# Altium footprint library coglib.PCBLIB: 12 footprints
Each footprint in its own frame and in the unit in brackets; x right, y up, seen from the top. Pads: shape width x height; smd on the part's side, far side on the other; paste and mask are expansions set on the pad; w line width, h text height; cw(c..) or ccw(c..) is an arc to the next point about the centre after c.
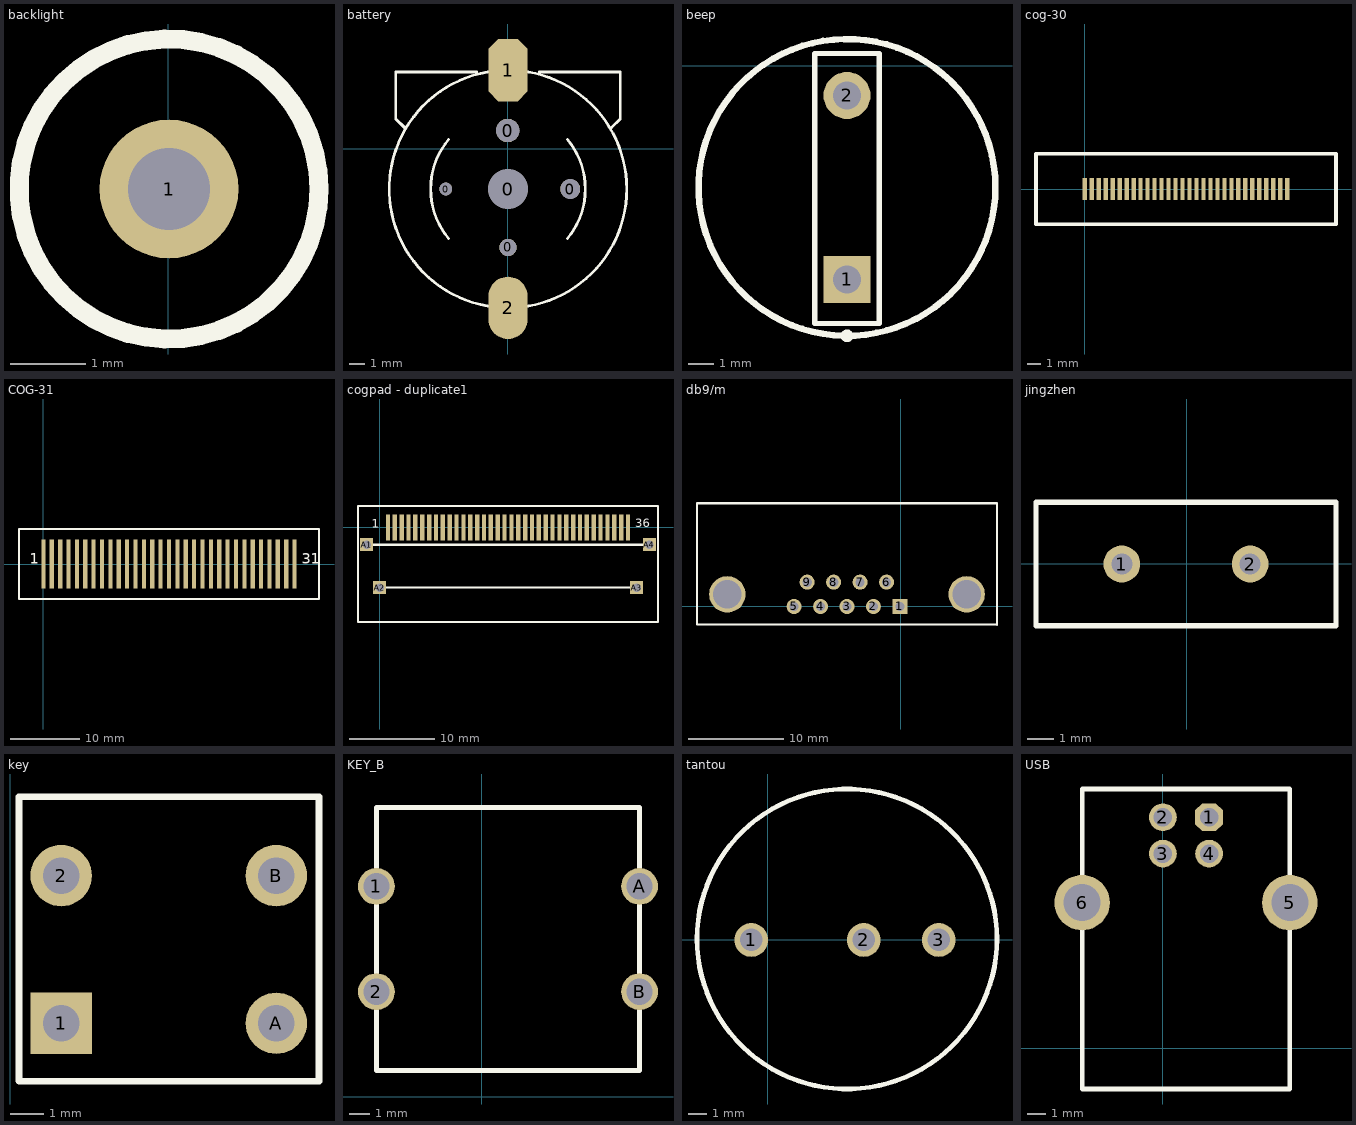
[diagram p0: the footprints below, top view; thin cyan lines are the x and y axes]

## backlight [mm]
pads (1):
  round 1.85 hole 1.1: 1(0.009,2.5)
Top Overlay:
  circle w0.254: c0.009,2.5 r2

## battery [mm]
pads (7):
  round 0.813 hole 0.813: 0(-3.979,-2.576)
  round 1.5 hole 1.5: 0(-0.016,1.174)
  round 1.1 hole 1.1: 0(0.009,-6.326)
  round 2.54 hole 2.54: 0(0.009,-2.576)
  round 1.27 hole 1.27: 0(3.997,-2.576)
  oct 2.5x4 smd: 1(0.009,5.044)
  oval 2.5x4 smd: 2(0.009,-10.196)
Top Overlay:
  lines w0.178: -6.616,1.349 -7.191,1.924 -7.191,4.924 -1.991,4.924 ; -3.803,-5.748 cw(c0.009,-2.576) -3.801,0.599 ; -0.824,-10.15 cw(c0.009,-2.576) -0.824,4.999 ; 0.842,-10.15 ccw(c0.009,-2.576) 7.629,-2.576 ccw(c0.009,-2.576) 0.842,4.999 ; 2.009,4.924 7.209,4.924 7.209,1.924 6.609,1.324 ; 3.821,-5.748 ccw(c0.009,-2.576) 3.824,0.594

## beep [mm]
height 9
pads (2):
  rect 1.85x1.85 hole 1.1: 1(14.213,-8.409)
  round 1.85 hole 1.1: 2(14.213,-1.17)
Top Overlay:
  circle w0.254: c14.213,-4.79 r5.842
  circle w0.25: c14.214,-10.63 r0.125
  lines w0.2: 12.943,-10.149 15.483,-10.149 15.483,-1.589 15.483,0.481 12.943,0.481 12.943,-1.589 12.943,-10.149

## cog-30 [mm]
pads (30):
  rect 0.3x1.6 smd: A1(0,0) A2(0.5,0) A3(1,0) A4(1.5,0) A5(2,0) A6(2.5,0) A7(3,0) A8(3.5,0) A9(4,0) A10(4.5,0) A11(5,0) A12(5.5,0) A13(6,0) A14(6.5,0) A15(7,0) A16(7.5,0) A17(8,0) A18(8.5,0) A19(9,0) A20(9.5,0) A21(10,0) A22(10.5,0) A23(11,0) A24(11.5,0) A25(12,0) A26(12.5,0) A27(13,0) A28(13.5,0) A29(14,0) A30(14.5,0)
Top Overlay:
  lines w0.254: -3.5,-2.54 18,-2.54 18,2.54 -3.5,2.54 -3.5,-2.54

## COG-31 [mm]
pads (31):
  rect 0.6x7 smd: A1(0,0) A2(1.2,0) A3(2.4,0) A4(3.6,0) A5(4.8,0) A6(6,0) A7(7.2,0) A8(8.4,0) A9(9.6,0) A10(10.8,0) A11(12,0) A12(13.2,0) A13(14.4,0) A14(15.6,0) A15(16.8,0) A16(18,0) A17(19.2,0) A18(20.4,0) A19(21.6,0) A20(22.8,0) A21(24,0) A22(25.2,0) A23(26.4,0) A24(27.6,0) A25(28.8,0) A26(30,0) A27(31.2,0) A28(32.4,0) A29(33.6,0) A30(34.8,0) A31(36,0)
Top Overlay:
  lines w0.254: -3.5,-5 -3.5,5 39.5,5 39.5,-5 -3.5,-5
  text "31" at 36.997,0.001 h1.52
  text "1" at -1.973,0.001 h1.52

## cogpad - duplicate1 [mm]
pads (40):
  rect 0.5x3 smd: 1(0.942,-0.045) 2(1.742,-0.045) 3(2.542,-0.045) 4(3.342,-0.045) 5(4.142,-0.045) 6(4.942,-0.045) 7(5.742,-0.045) 8(6.542,-0.045) 9(7.342,-0.045) 10(8.142,-0.045) 11(8.942,-0.045) 12(9.742,-0.045) 13(10.542,-0.045) 14(11.342,-0.045) 15(12.142,-0.045) 16(12.942,-0.045) 17(13.742,-0.045) 18(14.542,-0.045) 19(15.342,-0.045) 20(16.142,-0.045) 21(16.942,-0.045) 22(17.742,-0.045) 23(18.542,-0.045) 24(19.342,-0.045) 25(20.142,-0.045) 26(20.942,-0.045) 27(21.742,-0.045) 28(22.542,-0.045) 29(23.342,-0.045) 30(24.142,-0.045) 31(24.942,-0.045) 32(25.742,-0.045) 33(26.542,-0.045) 34(27.342,-0.045) 35(28.142,-0.045) 36(28.942,-0.045)
  rect 1.524x1.524 hole 1: A1(-1.553,-2.044) A2(-0.04,-7.044) A3(29.96,-7.044) A4(31.447,-2.044)
Top Overlay:
  lines w0.254: -1.553,-2.044 31.447,-2.044 ; -0.04,-7.044 29.96,-7.044 ; -2.553,-11.044 -2.553,2.456 -0.276,2.456 0.689,2.456 29.193,2.456 29.946,2.456 32.444,2.456 32.444,-11.044 -2.553,-11.044
  text "36" at 29.801,0.02 h1
  text "1" at -0.925,-0.04 h1

## db9/m [mil]
pads (11):
  rect 62x62 hole 38: 1(-2.56,-0.51)
  round 62 hole 38: 2(-111.56,-0.51) 3(-220.56,-0.51) 4(-329.56,-0.51) 5(-438.56,-0.51) 6(-57.56,99.49) 7(-166.56,99.49) 8(-275.56,99.49) 9(-384.56,99.49)
  round 150 hole 118.11: ""(-713.56,49.49) ""(272.44,49.49)
Top Overlay:
  lines w8: -838.56,424.49 -838.56,-75.51 397.44,-75.51
  lines w10: -838.56,424.49 397.44,424.49 397.44,-75.51

## jingzhen [mm]
height 4
pads (2):
  round 1.4 hole 0.8: 1(-2.476,-0.008) 2(2.404,-0.008)
Top Overlay:
  lines w0.2: -5.736,-2.358 5.664,-2.358 5.664,2.342 -5.736,2.342 -5.736,-2.358

## key [mm]
pads (4):
  rect 1.85x1.85 hole 1.1: 1(1.537,8.02)
  round 1.85 hole 1.1: 2(1.537,12.465) A(8.014,8.02) B(8.014,12.465)
Top Overlay:
  lines w0.2: 0.267,6.28 0.267,14.84 9.3,14.839 9.3,6.273 0.267,6.28

## KEY_B [mil]
pads (4):
  round 70 hole 50: 1(-200,400) 2(-200,200) A(300,400) B(300,200)
Top Overlay:
  lines w10: -200,50 300,50 300,550 -200,550 -200,50

## tantou [mm]
pads (3):
  round 1.8 hole 1.2: 1(-0.876,0) 2(5.124,0) 3(9.124,0)
Top Overlay:
  circle w0.254: c4.23,0.052 r8

## USB [mil]
pads (6):
  oct 60x60 hole 40: 1(99.98,500.85)
  round 60 hole 40: 2(-0.02,500.85) 3(-0.02,422.11) 4(99.98,422.11)
  round 120 hole 80: 5(274.98,315.81) 6(-175.02,315.81)
Top Overlay:
  lines w10: -175.02,-87.89 274.98,-87.89 274.98,562.11 -175.02,562.11 -175.02,-87.89